# Altium footprint library connector.PcbLib: 6 footprints
Each footprint in its own frame and in the unit in brackets; x right, y up, seen from the top. Pads: shape width x height; smd on the part's side, far side on the other; paste and mask are expansions set on the pad; w line width, h text height; cw(c..) or ccw(c..) is an arc to the next point about the centre after c.
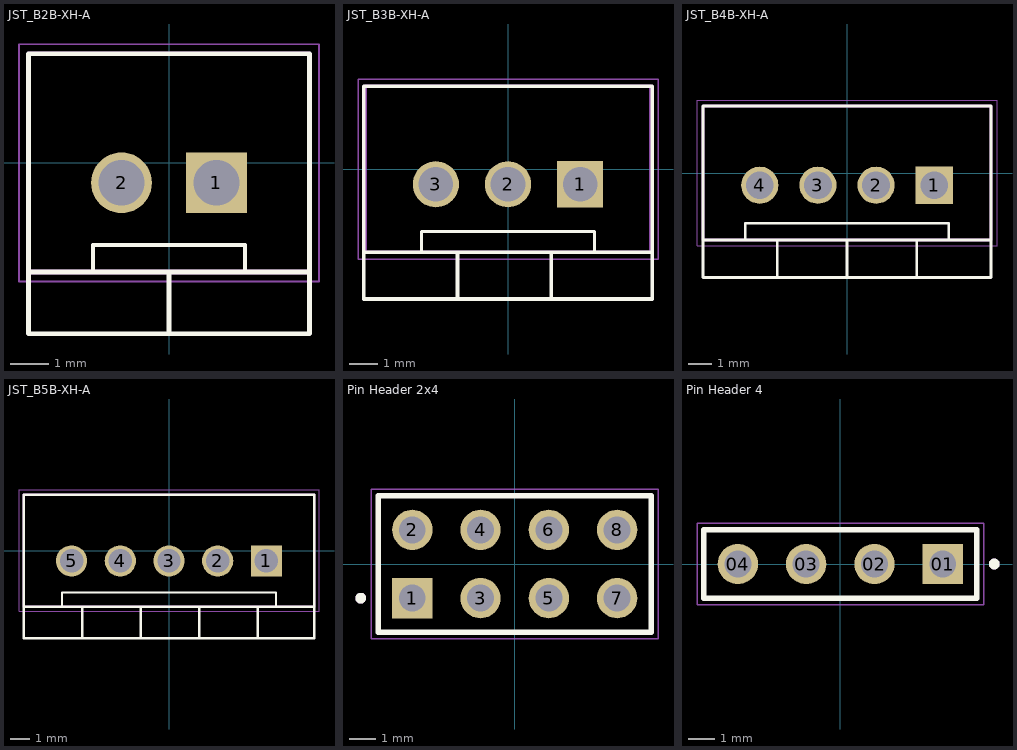
[diagram p0: the footprints below, top view; thin cyan lines are the x and y axes]

## JST_B2B-XH-A [mm]
height 7
pads (2):
  rect 1.6x1.6 hole 1.2: 1(1.25,-0.525)
  round 1.6 hole 1.2: 2(-1.25,-0.525)
Top Overlay:
  lines w0.1: -2,-2.87 -2,-2.159 2,-2.159 2,-2.87
  lines w0.127: 0,-4.5 0,-2.875 ; -3.7,-2.875 -3.7,-4.5 3.7,-4.5 3.7,-2.875 ; -3.7,-2.875 3.7,-2.875 ; -3.7,-2.875 -3.7,2.875 3.7,2.875 3.7,-2.875
Mechanical 13:
  lines w0.127: -3.7,-2.875 3.7,-2.875 3.7,2.875 -3.7,2.875 -3.7,-2.875
Mechanical 15:
  lines w0.05: -3.95,-3.125 -3.95,3.125 3.95,3.125 3.95,-3.125 -3.95,-3.125
3D body "step_temp.STEP": height 7, standoff -3.4, extent -3.7,-2.875 3.7,2.875

## JST_B3B-XH-A [mm]
height 7
pads (3):
  rect 1.6x1.6 hole 1.2: 1(2.5,-0.525)
  round 1.6 hole 1.2: 2(0,-0.525) 3(-2.5,-0.525)
Top Overlay:
  lines w0.1: -3,-2.87 -3,-2.159 3,-2.159 3,-2.87
  lines w0.127: -1.75,-4.5 -1.75,-2.896 ; 1.5,-4.5 1.5,-2.896 ; -5,-2.875 -5,2.875 5,2.875 5,-2.875 ; -5,-2.875 -5,-4.5 5,-4.5 5,-2.875 ; -5,-2.875 5,-2.875
Mechanical 13:
  lines w0.127: -4.95,-2.875 -4.95,2.875 4.95,2.875 4.95,-2.875 -4.95,-2.875
Mechanical 15:
  lines w0.05: -5.2,-3.125 -5.2,3.125 5.2,3.125 5.2,-3.125 -5.2,-3.125
3D body "step_temp.STEP": height 7, standoff -3.4, extent -4.95,-2.875 4.95,2.875

## JST_B4B-XH-A [mm]
height 7
pads (4):
  rect 1.6x1.6 hole 1.2: 1(3.75,-0.525)
  round 1.6 hole 1.2: 2(1.25,-0.525) 3(-1.25,-0.525) 4(-3.75,-0.525)
Top Overlay:
  lines w0.1: -4.375,-2.87 -4.375,-2.159 4.375,-2.159 4.375,-2.87
  lines w0.127: -3,-4.5 -3,-2.9 ; 0,-4.5 0,-2.875 ; 3,-4.5 3,-2.9 ; -6.2,-2.875 -6.2,-4.5 6.2,-4.5 6.2,-2.875 ; -6.2,-2.875 -6.2,2.875 6.2,2.875 6.2,-2.875 ; -6.2,-2.875 6.2,-2.875
Mechanical 13:
  lines w0.127: -6.2,-2.875 -6.2,2.875 6.2,2.875 6.2,-2.875 -6.2,-2.875
Mechanical 15:
  lines w0.05: -6.45,-3.125 -6.45,3.125 6.45,3.125 6.45,-3.125 -6.45,-3.125
3D body "step_temp.STEP": height 7, standoff -3.4, extent -6.2,-2.875 6.2,2.875

## JST_B5B-XH-A [mm]
height 7
pads (5):
  rect 1.6x1.6 hole 1.2: 1(5,-0.525)
  round 1.6 hole 1.2: 2(2.5,-0.525) 3(0,-0.525) 4(-2.5,-0.525) 5(-5,-0.525)
Top Overlay:
  lines w0.1: -5.5,-2.87 -5.5,-2.159 5.5,-2.159 5.5,-2.87
  lines w0.127: -4.45,-4.5 -4.45,-2.875 ; -1.45,-4.5 -1.45,-2.875 ; 1.55,-4.5 1.55,-2.875 ; 4.55,-4.5 4.55,-2.875 ; -7.45,-2.875 7.45,-2.875 ; -7.45,-2.875 -7.45,2.875 7.45,2.875 7.45,-2.875 ; -7.45,-2.875 -7.45,-4.5 7.45,-4.5 7.45,-2.875
Mechanical 13:
  lines w0.127: -7.45,-2.875 7.45,-2.875 7.45,2.875 -7.45,2.875 -7.45,-2.875
Mechanical 15:
  lines w0.05: -7.7,-3.125 7.7,-3.125 7.7,3.125 -7.7,3.125 -7.7,-3.125
3D body "step_temp.STEP": height 7, standoff -3.4, extent -7.45,-2.875 7.45,2.875

## Pin Header 2x4 [mm]
pads (8):
  rect 1.5x1.5 hole 1: 1(-3.81,-1.27)
  round 1.5 hole 1: 2(-3.81,1.27) 3(-1.27,-1.27) 4(-1.27,1.27) 5(1.27,-1.27) 6(1.27,1.27) 7(3.81,-1.27) 8(3.81,1.27)
Top Overlay:
  circle w0.2: c-5.73,-1.27 r0.1
  lines w0.2: -5.08,-2.54 5.08,-2.54 5.08,2.54 -5.08,2.54 -5.08,-2.54
Mechanical 13:
  circle w0.2: c-5.73,-1.27 r0.1
  lines w0.1: -5.08,-2.54 -5.08,2.54 ; -5.08,-2.54 5.08,-2.54 ; -5.08,-2.54 -5.08,2.54 ; -5.08,2.54 5.08,2.54 ; -5.08,2.54 5.08,2.54 ; 5.08,-2.54 5.08,2.54 ; 5.08,-2.54 5.08,2.54
Mechanical 15:
  lines w0.05: -5.33,-2.79 5.33,-2.79 5.33,2.79 -5.33,2.79 -5.33,-2.79
3D body "MTSW-104-07-T-D-240-LL.stp": height 8.64, standoff -2.29, extent -5.08,-2.54 5.08,2.54

## Pin Header 4 [mm]
pads (4):
  rect 1.5x1.5 hole 1: 01(3.81,0)
  round 1.5 hole 1: 02(1.27,0) 03(-1.27,0) 04(-3.81,0)
Top Overlay:
  circle w0.2: c5.73,0 r0.1
  lines w0.2: -5.08,-1.27 5.08,-1.27 5.08,1.27 -5.08,1.27 -5.08,-1.27
Mechanical 13:
  circle w0.2: c5.73,0 r0.1
  lines w0.1: -5.08,-1.27 -5.08,1.27 ; -5.08,-1.27 5.08,-1.27 ; -5.08,-1.27 -5.08,1.27 ; -5.08,1.27 5.08,1.27 ; -5.08,1.27 5.08,1.27 ; 5.08,-1.27 5.08,1.27 ; 5.08,-1.27 5.08,1.27
Mechanical 15:
  lines w0.05: -5.33,-1.52 5.33,-1.52 5.33,1.52 -5.33,1.52 -5.33,-1.52
3D body "MTSW-104-07-T-S-190.stp": height 7.37, standoff -3.56, extent -5.08,-1.27 5.08,1.27